# Altium integrated library IRM-01-5.IntLib: 1 symbol
Pins are listed as number, name and electrical type; pins without a type are passive.

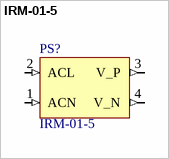
[diagram p0: symbol IRM-01-5]

## IRM-01-5
designator PS?
AC-DC Single Output Encapsulated power supply; Input 85-305Vac; Output 5Vdc at 0.2A; PCB mount; MF: MEAN WELL; Price: None; Package: DIP-4 Mean Well; MP: IRM-01-5; Availability: Unavailable; SnapEDA_Link: https://www.snapeda.com/parts/IRM-01-5/MEAN%20WELL%20USA%20Inc./view-part/?ref=snap; Value: *
footprint CONV_IRM-01-5
pins: 1 ACN (in), 2 ACL (in), 3 V_P (out), 4 V_N (out)